# EAGLE library part HMC284AMS8G (library hittite)
RF SWITCH DC - 3.5 GHz, Non-Reflective SPDT
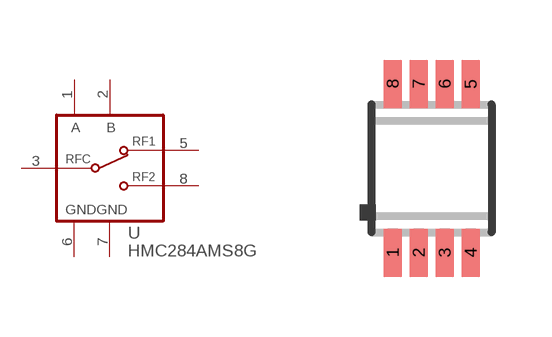
[diagram p2: symbol with the pads of MS8G(E); footprint MS8G(E)]

Designator prefix U; gates P=RFS_CTRL A=RFS_SPDT

## HMC284AMS8G  [MS8G(E)]
1  P:A  in
2  P:B  in
3  A:RFC
5  A:RF1
6  P:GND1  pwr
7  P:GND2  pwr
8  A:RF2

## Footprint MS8G(E) (pad centres in mm)
MS8G (E) - Mini Small Outline Package Solder Mask Defined Thermal Pad
smd 0.45 x 1.2: 1 -0.975,-2.112; 2 -0.325,-2.112; 3 0.325,-2.112; 4 0.975,-2.112; 5 0.975,2.112; 6 0.325,2.112; 7 -0.325,2.112; 8 -0.975,2.112